# Altium schematic symbol library LMV321LILT.SchLib: 1 symbol
Pins are listed as number, name and electrical type; pins without a type are passive.

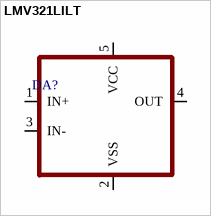
[diagram p0: symbol LMV321LILT]

## LMV321LILT
designator DA?
pins: 1 IN+, 2 VSS, 3 IN-, 4 OUT, 5 VCC